# Altium footprint library PcbLib1.PcbLib: 5 footprints
Each footprint in its own frame and in the unit in brackets; x right, y up, seen from the top. Pads: shape width x height; smd on the part's side, far side on the other; paste and mask are expansions set on the pad; w line width, h text height; cw(c..) or ccw(c..) is an arc to the next point about the centre after c.
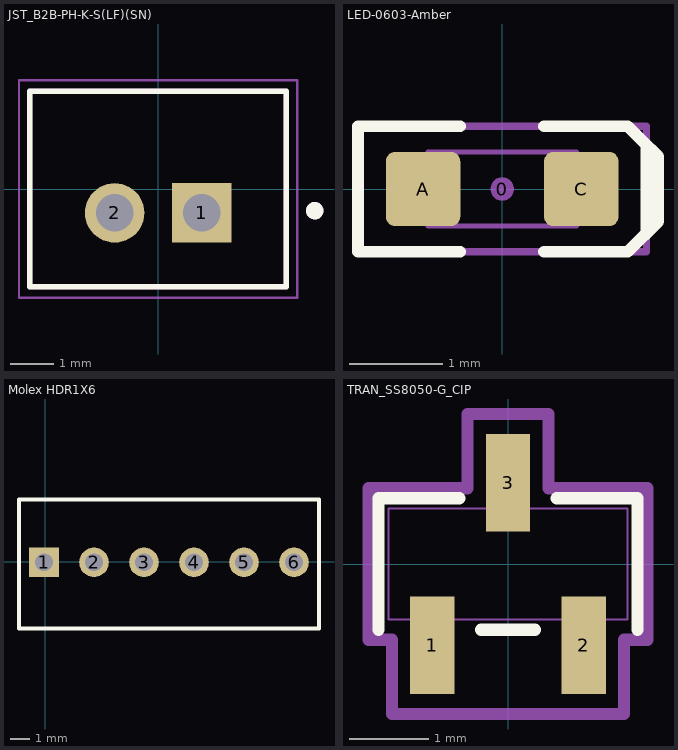
[diagram p0: the footprints below, top view; thin cyan lines are the x and y axes]

## JST_B2B-PH-K-S(LF)(SN) [mm]
pads (2):
  rect 1.368x1.368 hole 0.86: 1(1,-0.55)
  round 1.368 hole 0.86: 2(-1,-0.55)
Top Overlay:
  circle w0.2: c3.6,-0.5 r0.1
  lines w0.127: -2.95,-2.25 2.95,-2.25 2.95,2.25 -2.95,2.25 -2.95,-2.25
Mechanical 13:
  circle w0.2: c3.6,-0.5 r0.1
  lines w0.127: -2.95,-2.25 -2.95,2.25 2.95,2.25 2.95,-2.25 -2.95,-2.25
Mechanical 15:
  lines w0.05: -3.2,-2.5 -3.2,2.5 3.2,2.5 3.2,-2.5 -3.2,-2.5
3D body "B2B-PH-K-S(LF)(SN)--3DModel-STEP-56544.STEP": height 6, standoff -3.4, extent -2.95,-2.25 2.95,2.25

## LED-0603-Amber [mm]
height 0.8
pads (3):
  round 0.254 on Mech15: 0(0,0)
  rrect25% 0.8x0.8 smd: A(-0.85,0) C(0.85,0)
Top Overlay:
  lines w0.127: -0.45,-0.675 -1.55,-0.675 -1.55,0.675 -0.45,0.675 ; 0.45,-0.675 1.35,-0.675 1.55,-0.475 1.55,0.475 1.35,0.675 0.45,0.675 ; 1.5,0.525 1.675,0.35 1.675,-0.35 1.525,-0.5
Mechanical 5:
  text ".Designator" at -0.36,-0.29 h0.6
Mechanical 13:
  lines w0.05: -0.6,-0.4 -0.6,0.399 0.6,0.4 0.6,-0.4 -0.6,-0.399 ; -0.505,-0.398 -0.505,0.398 ; -0.5,-0.4 -0.8,-0.4 -0.8,0.4 -0.5,0.4 ; 0.5,-0.4 0.8,-0.4 0.8,0.4 0.5,0.4 ; 0.505,-0.398 0.505,0.398 ; -0.599,-0.398 -0.599,0.398 0.599,0.398 0.599,-0.398 -0.599,-0.398
Mechanical 15:
  lines w0.076: -1.55,-0.675 1.55,-0.675 1.55,0.675 -1.55,0.675 -1.55,-0.675
3D body "LED 0603 APT1608 RED.STEP": height 0.75, standoff 0, extent -0.8,-0.4 0.8,0.4

## Molex HDR1X6 [mm] "Connector; Header;  6 position"
pads (6):
  rect 1.5x1.5 hole 0.9: 1(-0.07,-0.04)
  round 1.5 hole 0.9: 2(2.47,-0.04) 3(5.01,-0.04) 4(7.55,-0.04) 5(10.09,-0.04) 6(12.63,-0.04)
Top Overlay:
  lines w0.2: -1.34,-3.4 -1.34,3.15 13.9,3.15 13.9,-3.4 -1.34,-3.4
3D body "022232061.stp": height 11.58, standoff -2.64, extent -1.214,-3.34 13.874,3.01

## PCBComponent_1 [mm]

## TRAN_SS8050-G_CIP [mil]
pads (3):
  rect 22x48 smd paste+0 mask+0: 1(-37.4,-40.2) 2(37.4,-40.2) 3(0,40.2)
Top Overlay:
  lines w6: -64,-32.5 -64,32.5 -24.1,32.5 ; -13.3,-32.5 13.3,-32.5 ; 24.1,32.5 64,32.5 64,-32.5
Mechanical 13:
  lines w1: -59,-27.5 59,-27.5 59,27.5 -59,27.5 -59,-27.5 ; -47.4,-50.2 -47.4,-27.5 -27.4,-27.5 -27.4,-50.2 -47.4,-50.2 ; -10,27.5 10,27.5 10,50.2 -10,50.2 -10,27.5 ; 27.4,-50.2 27.4,-27.5 47.4,-27.5 47.4,-50.2 27.4,-50.2
Mechanical 15:
  lines w6: -69,-37.5 -69,37.5 -20,37.5 -20,74.2 20,74.2 20,37.5 69,37.5 69,-37.5 57.4,-37.5 57.4,-74.2 -57.4,-74.2 -57.4,-37.5 -69,-37.5
3D body "TRAN_SS8050-G_CIP.step": height 41.1, standoff 0, extent -59.01,-50.19 59.02,50.21
3D body: height 10, standoff 0, extent 0,0 10,10